# Altium schematic symbol library RC0805JR-075K1L.SchLib: 1 symbol
Pins are listed as number, name and electrical type; pins without a type are passive.

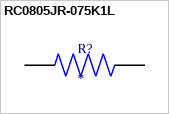
[diagram p0: symbol RC0805JR-075K1L]

## RC0805JR-075K1L
designator R?
RC0805 5,1K 5% 0,125W; MP: RC0805JR-075K1L; Package: None; Price: None; Value: *; Availability: Unavailable
footprint RESC2012X60N
pins: 1, 2